# Altium footprint library PCB_Library.PcbLib: 13 footprints
Each footprint in its own frame and in the unit in brackets; x right, y up, seen from the top. Pads: shape width x height; smd on the part's side, far side on the other; paste and mask are expansions set on the pad; w line width, h text height; cw(c..) or ccw(c..) is an arc to the next point about the centre after c.
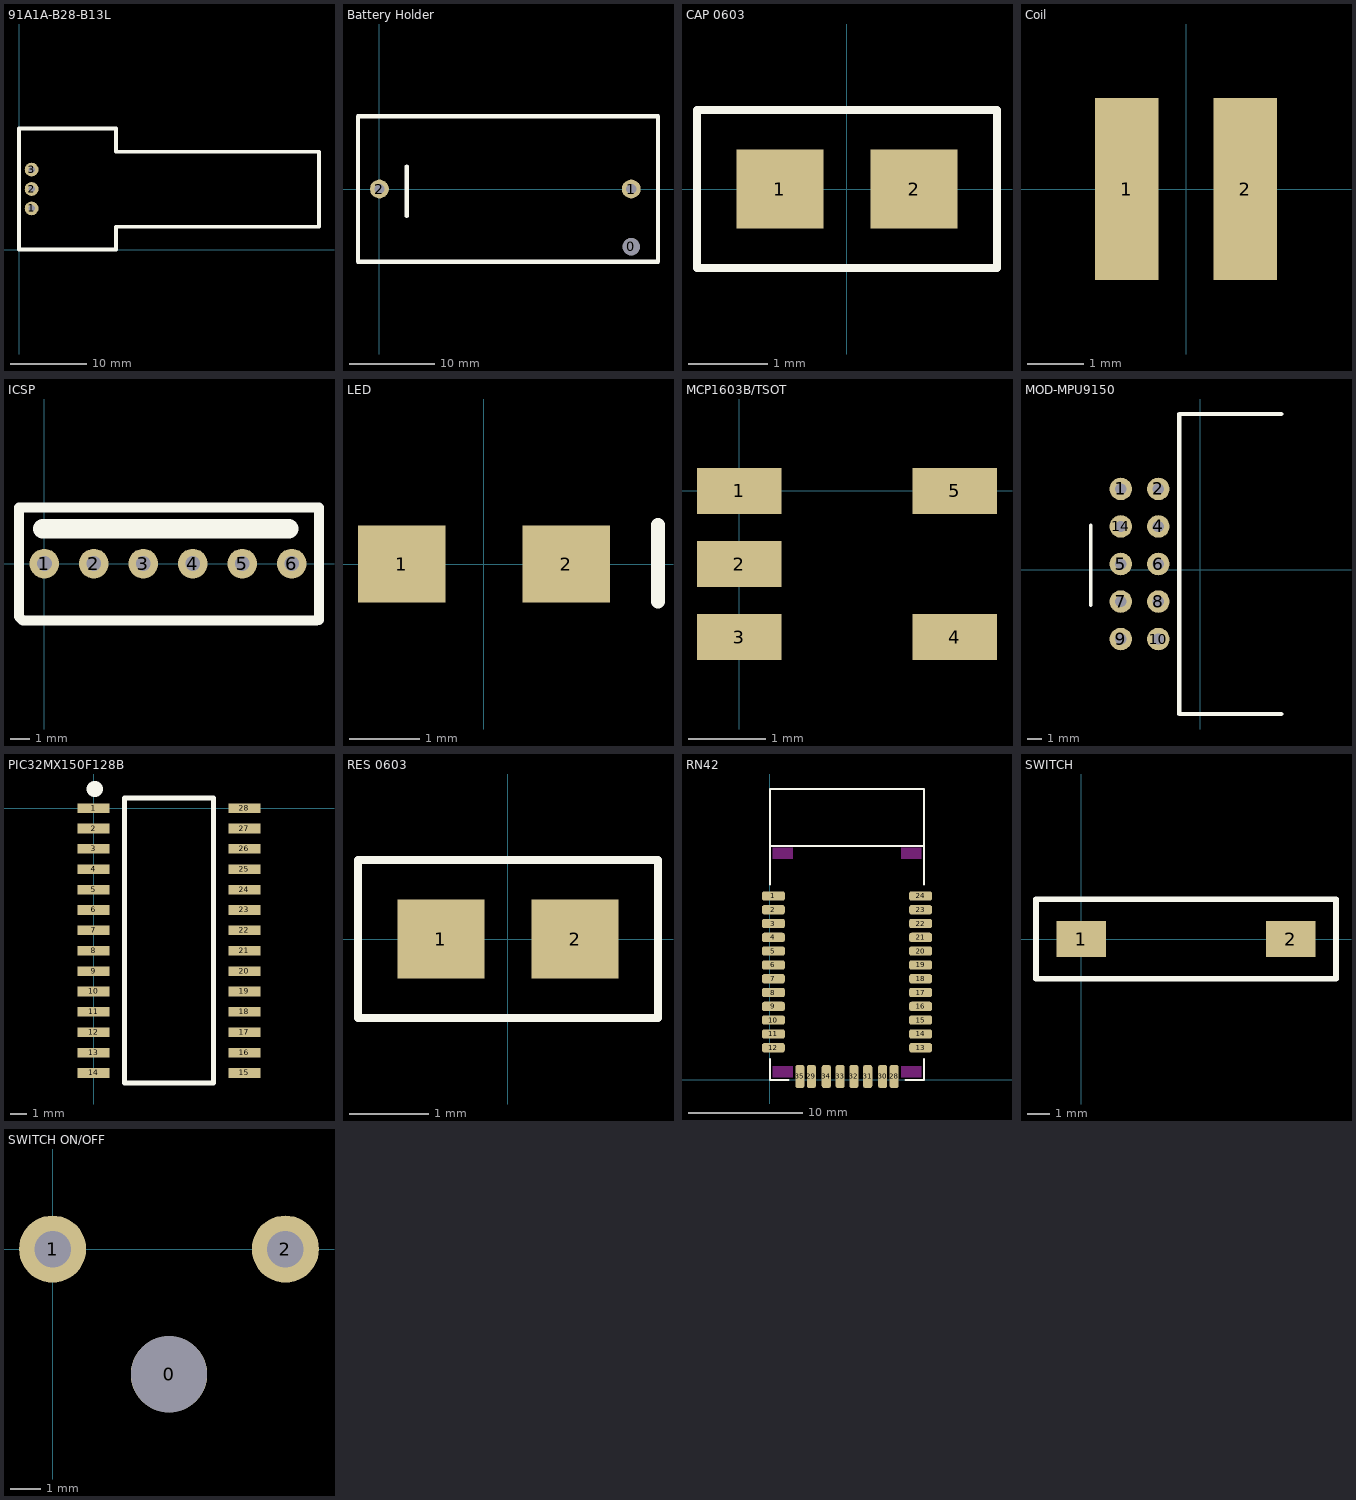
[diagram p0: the footprints below, top view; thin cyan lines are the x and y axes]

## 91A1A-B28-B13L [mm] "Potard"
pads (3):
  round 1.8 hole 0.85: 1(1.65,5.4) 2(1.65,7.94) 3(1.65,10.48)
Top Overlay:
  lines w0.5: 0,0 12.7,0 12.7,3 39.27,3 39.27,12.81 12.7,12.81 12.7,15.88 0,15.88 0,0

## Battery Holder [mm]
pads (3):
  round 2 hole 2 unplated: 0(29.38,-6.73)
  round 2.2 hole 1.2: 1(29.38,0) 2(0,0)
Top Overlay:
  lines w0.5: 3.175,-3.15 3.175,2.616 ; -2.5,-8.5 -2.5,8.5 32.5,8.5 32.5,-8.5 -2.5,-8.5

## CAP 0603 [mm]
pads (2):
  rect 1.1x1 smd: 1(-0.85,0) 2(0.85,0)
Top Overlay:
  lines w0.1: -1.9,-1 -1.9,0 -1.9,1 1.9,1 1.9,-1 -1.9,-1

## Coil [mm]
pads (2):
  rect 1.12x3.2 smd: 1(-1.04,0) 2(1.04,0)

## ICSP [mil] "ICSP - 6 PINS"
pads (6):
  round 60 hole 30: 1(0.01,-0.02) 2(100.01,-0.02) 3(200.01,-0.02) 4(300.01,-0.02) 5(400.01,-0.02) 6(500.01,-0.02)
Top Overlay:
  lines w19.68: -51.18,113.39 -51.18,-107.41 -43.63,-114.96 550,-114.96 ; -50,113.39 550,113.39 ; 555.12,-114.17 555.12,113.39
  lines w39.37: -3,70.44 494,70.44

## LED [mm]
pads (2):
  rect 1.25x1.1 smd: 1(-1.175,0) 2(1.175,0)
Top Overlay:
  lines w0.2: 2.489,-0.533 2.489,0.559

## MCP1603B/TSOT [mm] "TSOT Package for MCP1603 and MCP1603B buck regulator"
pads (5):
  rect 1.1x0.6 smd: 1(0,0) 2(0,-0.95) 3(0,-1.9) 4(2.8,-1.9) 5(2.8,0)
Top Solder:
  rectangle: -0.533,-2.159 0.508,0.279

## MOD-MPU9150 [mil] "Header for the UEXT + 1"
pads (10):
  round 60 hole 30: 1(-212,215) 2(-112,215) 4(-112,115) 5(-212,15) 6(-112,15) 7(-212,-85) 8(-112,-85) 9(-212,-185) 10(-112,-185) 14(-212,115)
Top Overlay:
  lines w10: -292,-94 -292,118
  lines w11.81: 215.55,-384.61 -56.1,-384.61 -56.1,414.61 215.55,414.61

## PIC32MX150F128B [mm] "SOIC Package"
pads (28):
  rect 2x0.6 smd: 1(0,0) 2(0,-1.27) 3(0,-2.54) 4(0,-3.81) 5(0,-5.08) 6(0,-6.35) 7(0,-7.62) 8(0,-8.89) 9(0,-10.16) 10(0,-11.43) 11(0,-12.7) 12(0,-13.97) 13(0,-15.24) 14(0,-16.51) 15(9.4,-16.51) 16(9.4,-15.24) 17(9.4,-13.97) 18(9.4,-12.7) 19(9.4,-11.43) 20(9.4,-10.16) 21(9.4,-8.89) 22(9.4,-7.62) 23(9.4,-6.35) 24(9.4,-5.08) 25(9.4,-3.81) 26(9.4,-2.54) 27(9.4,-1.27) 28(9.4,0)
Top Overlay:
  lines w0.3: 4.369,0.635 7.465,0.635 7.465,-17.145 1.935,-17.145 1.935,0.635 4.382,0.635
  lines w1: 0.051,1.194 0.076,1.194

## RES 0603 [mm]
pads (2):
  rect 1.1x1 smd: 1(-0.85,0) 2(0.85,0)
Top Overlay:
  lines w0.1: -1.9,-1 1.9,-1 1.9,1 -1.9,1 -1.9,0 -1.9,-1

## RN42 [mm] "RN42 Bluetooth Module with antenna"
pads (32):
  rrect50% 2x0.8 smd: 1(0.3,16) 2(0.3,14.8) 3(0.3,13.6) 4(0.3,12.4) 5(0.3,11.2) 6(0.3,10) 7(0.3,8.8) 8(0.3,7.6) 9(0.3,6.4) 10(0.3,5.2) 11(0.3,4) 12(0.3,2.8) 13(13.1,2.8) 14(13.1,4) 15(13.1,5.2) 16(13.1,6.4) 17(13.1,7.6) 18(13.1,8.8) 19(13.1,10) 20(13.1,11.2) 21(13.1,12.4) 22(13.1,13.6) 23(13.1,14.8) 24(13.1,16)
  rrect50% 0.8x2 smd mask+0.05: 28(10.8,0.3) 29(3.6,0.3) 30(9.8,0.3) 35(2.6,0.3)
  rrect50% 0.8x2 smd: 31(8.5,0.3) 32(7.3,0.3) 33(6.1,0.3) 34(4.9,0.3)
Top Layer keep-out:
  rectangle: 0.2,0.2 2,1.2
  rectangle: 11.4,19.2 13.2,20.2
  rectangle: 0.2,19.2 2,20.2
  rectangle: 11.4,0.2 13.2,1.2
Top Overlay:
  lines w0.2: 0,1.8 0,0 1.6,0 ; 0,17 0,25.3 13.4,25.3 13.4,17 ; 0,20.35 13.4,20.35 ; 11.8,0 13.4,0 13.4,1.8
Top Solder:
  rectangle: -0.8,2.7 1.4,16
  rectangle: 12,2.6 14.2,16
  rectangle: 2.286,-0.787 11.074,1.397

## SWITCH [mm]
pads (2):
  rect 2.18x1.6 smd: 1(0,0) 2(9.2,0)
Top Overlay:
  lines w0.254: -2,-1.753 11.2,-1.753 11.2,1.753 -2,1.753 ; -2,-1.75 -2,1.75

## SWITCH ON/OFF [mm]
pads (3):
  round 2.5 hole 2.5 unplated: 0(3.81,-4.1)
  round 2.2 hole 1.2: 1(0,0) 2(7.62,0)